# Altium footprint library PTS820J15KPSMTRLFS.PcbLib: 1 footprints
Each footprint in its own frame and in the unit in brackets; x right, y up, seen from the top. Pads: shape width x height; smd on the part's side, far side on the other; paste and mask are expansions set on the pad; w line width, h text height; cw(c..) or ccw(c..) is an arc to the next point about the centre after c.
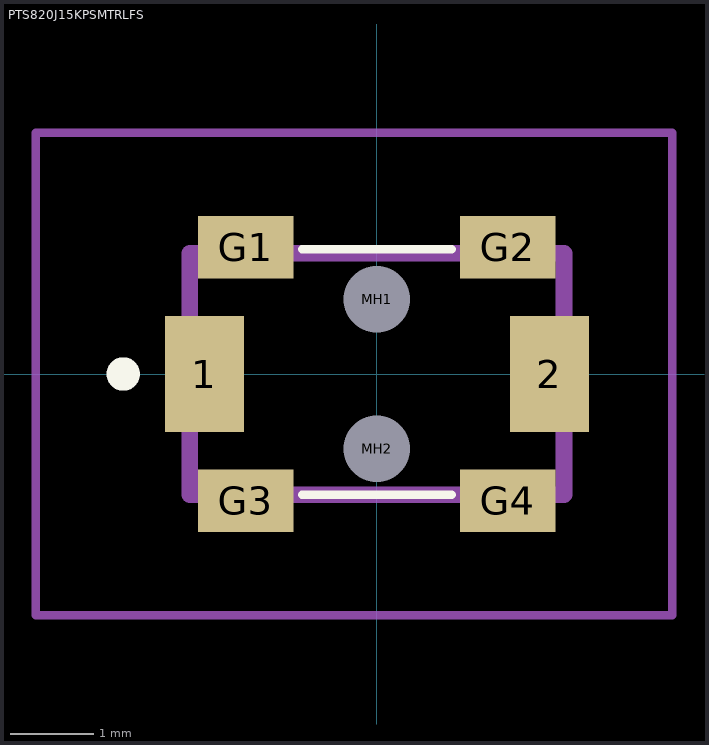
[diagram p0: the footprint, top view; thin cyan lines are the x and y axes]

## PTS820J15KPSMTRLFS [mm]
pads (8):
  rect 0.95x1.4 smd: 1(-2.075,0) 2(2.075,0)
  rect 1.15x0.75 smd: G1(-1.575,1.525) G2(1.575,1.525) G3(-1.575,-1.525) G4(1.575,-1.525)
  round 0.4 hole 0.8 unplated: MH1(0,0.9) MH2(0,-0.9)
Top Overlay:
  lines w0.1: -0.9,-1.45 0.9,-1.45 ; -0.9,1.5 0.6,1.5 0.9,1.5
  lines w0.3: -3.1,0 cw(c-3.05,0) -3,0 ; -3.1,0 -3.1,0 ; -3.1,0 ccw(c-3.05,0) -3,0 ; -3,0 -3,0
Mechanical 15:
  lines w0.2: -2.25,-1.45 2.25,-1.45 2.25,1.45 -2.25,1.45 -2.25,-1.45
Mechanical 20:
  lines w0.1: -4.1,-2.9 3.55,-2.9 3.55,2.9 -4.1,2.9 -4.1,-2.9
3D body "PTS820J15KPSMTRLFS.stp": height 5.8, standoff -4.65, extent -10,-3.376 10,3.376